# Altium footprint library Connector_Molex.PcbLib: 815 footprints (part 28 of 51)
Each footprint in its own frame and in the unit in brackets; x right, y up, seen from the top. Pads: shape width x height; smd on the part's side, far side on the other; paste and mask are expansions set on the pad; w line width, h text height; cw(c..) or ccw(c..) is an arc to the next point about the centre after c.
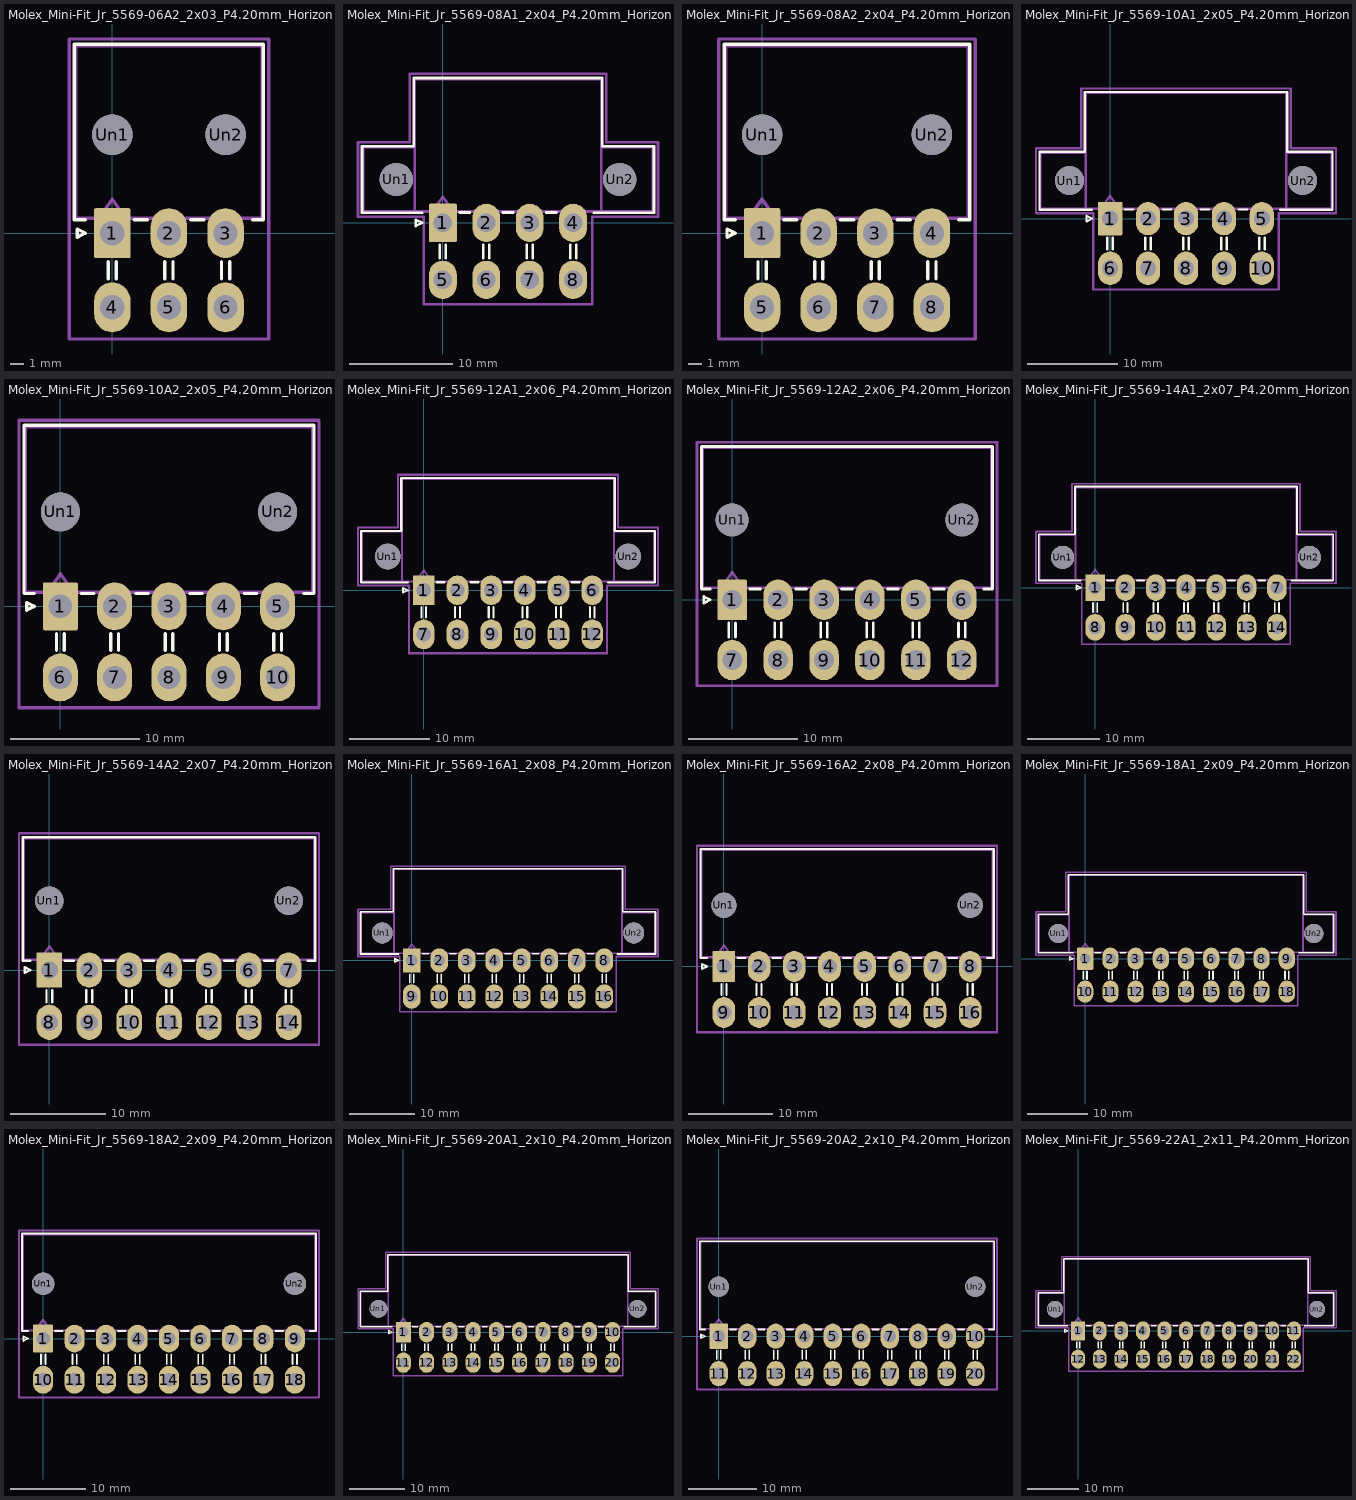
[diagram p27: the footprints below, top view; thin cyan lines are the x and y axes]

## Molex_Mini-Fit_Jr_5569-06A2_2x03_P4.20mm_Horizontal [mm]
pads (8):
  rrect9% 2.7x3.7 hole 1.8: 1(0,0)
  rrect100% 2.7x3.7 hole 1.8: 2(4.2,0) 3(8.4,0) 4(0,-5.5) 5(4.2,-5.5) 6(8.4,-5.5)
  round 3 hole 3: Un1(0,7.3) Un2(8.4,7.3)
F.SilkS:
  lines w0.254: -2,0.99 -2.81,0.99 -2.81,14.01 4.2,14.01 11.21,14.01 11.21,0.99 10.4,0.99 ; -0.3,-3.39 -0.3,-2.11 ; 0.3,-3.39 0.3,-2.11 ; 1.61,1 2.59,1 ; 3.9,-3.39 3.9,-2.11 ; 4.5,-3.39 4.5,-2.11 ; 5.81,1 6.79,1 ; 8.1,-3.39 8.1,-2.11 ; 8.7,-3.39 8.7,-2.11 ; -2.6,-0.3 -2,0 -2.6,0.3 -2.6,-0.3
Top Assembly:
  lines w0.254: -1,1.1 0,2.514 1,1.1 ; -2.7,1.1 11.1,1.1 11.1,13.9 -2.7,13.9 -2.7,1.1
  text "'.Designator'" at 0.153,12.36 h1
Top Courtyard:
  lines w0.254: -3.2,-7.85 11.61,-7.85 11.61,14.4 -3.2,14.4 -3.2,-7.85
Top Designator:
  text ".Designator" at -3.413,2.767 h1.52

## Molex_Mini-Fit_Jr_5569-08A1_2x04_P4.20mm_Horizontal [mm]
pads (10):
  rrect9% 2.7x3.7 hole 1.8: 1(0,0)
  rrect100% 2.7x3.7 hole 1.8: 2(4.2,0) 3(8.4,0) 4(12.6,0) 5(0,-5.5) 6(4.2,-5.5) 7(8.4,-5.5) 8(12.6,-5.5)
  round 3.2 hole 3.2: Un1(-4.5,4.2) Un2(17.1,4.2)
F.SilkS:
  lines w0.254: -2,0.99 -7.81,0.99 -7.81,7.41 -2.81,7.41 -2.81,14.01 6.3,14.01 15.41,14.01 15.41,7.41 20.41,7.41 20.41,0.99 14.6,0.99 ; -0.3,-3.39 -0.3,-2.11 ; 0.3,-3.39 0.3,-2.11 ; 1.61,1 2.59,1 ; 3.9,-3.39 3.9,-2.11 ; 4.5,-3.39 4.5,-2.11 ; 5.81,1 6.79,1 ; 8.1,-3.39 8.1,-2.11 ; 8.7,-3.39 8.7,-2.11 ; 10.01,1 10.99,1 ; 12.3,-3.39 12.3,-2.11 ; 12.9,-3.39 12.9,-2.11 ; -2.6,-0.3 -2,0 -2.6,0.3 -2.6,-0.3
Top Assembly:
  lines w0.254: -2.7,7.3 -7.7,7.3 -7.7,1.1 -2.7,1.1 ; -1,1.1 0,2.514 1,1.1 ; 15.3,7.3 20.3,7.3 20.3,1.1 15.3,1.1 ; -2.7,1.1 15.3,1.1 ; -2.7,1.1 -2.7,13.9 15.3,13.9 15.3,1.1
  text "'.Designator'" at 2.253,12.36 h1
Top Courtyard:
  lines w0.254: -8.2,0.6 -1.85,0.6 -1.85,-7.85 6.3,-7.85 14.45,-7.85 14.45,0.6 20.8,0.6 20.8,7.8 15.8,7.8 15.8,14.4 6.3,14.4 -3.2,14.4 -3.2,7.8 -8.2,7.8 -8.2,0.6
Top Designator:
  text ".Designator" at -1.318,2.767 h1.52

## Molex_Mini-Fit_Jr_5569-08A2_2x04_P4.20mm_Horizontal [mm]
pads (10):
  rrect9% 2.7x3.7 hole 1.8: 1(0,0)
  rrect100% 2.7x3.7 hole 1.8: 2(4.2,0) 3(8.4,0) 4(12.6,0) 5(0,-5.5) 6(4.2,-5.5) 7(8.4,-5.5) 8(12.6,-5.5)
  round 3 hole 3: Un1(0,7.3) Un2(12.6,7.3)
F.SilkS:
  lines w0.254: -2,0.99 -2.81,0.99 -2.81,14.01 6.3,14.01 15.41,14.01 15.41,0.99 14.6,0.99 ; -0.3,-3.39 -0.3,-2.11 ; 0.3,-3.39 0.3,-2.11 ; 1.61,1 2.59,1 ; 3.9,-3.39 3.9,-2.11 ; 4.5,-3.39 4.5,-2.11 ; 5.81,1 6.79,1 ; 8.1,-3.39 8.1,-2.11 ; 8.7,-3.39 8.7,-2.11 ; 10.01,1 10.99,1 ; 12.3,-3.39 12.3,-2.11 ; 12.9,-3.39 12.9,-2.11 ; -2.6,-0.3 -2,0 -2.6,0.3 -2.6,-0.3
Top Assembly:
  lines w0.254: -1,1.1 0,2.514 1,1.1 ; -2.7,1.1 15.3,1.1 15.3,13.9 -2.7,13.9 -2.7,1.1
  text "'.Designator'" at 2.253,12.36 h1
Top Courtyard:
  lines w0.254: -3.2,-7.85 15.8,-7.85 15.8,14.4 -3.2,14.4 -3.2,-7.85
Top Designator:
  text ".Designator" at -1.318,2.767 h1.52

## Molex_Mini-Fit_Jr_5569-10A1_2x05_P4.20mm_Horizontal [mm]
pads (12):
  rrect9% 2.7x3.7 hole 1.8: 1(0,0)
  rrect100% 2.7x3.7 hole 1.8: 2(4.2,0) 3(8.4,0) 4(12.6,0) 5(16.8,0) 6(0,-5.5) 7(4.2,-5.5) 8(8.4,-5.5) 9(12.6,-5.5) 10(16.8,-5.5)
  round 3.2 hole 3.2: Un1(-4.5,4.2) Un2(21.3,4.2)
F.SilkS:
  lines w0.254: -2,0.99 -7.81,0.99 -7.81,7.41 -2.81,7.41 -2.81,14.01 8.4,14.01 19.61,14.01 19.61,7.41 24.61,7.41 24.61,0.99 18.8,0.99 ; -0.3,-3.39 -0.3,-2.11 ; 0.3,-3.39 0.3,-2.11 ; 1.61,1 2.59,1 ; 3.9,-3.39 3.9,-2.11 ; 4.5,-3.39 4.5,-2.11 ; 5.81,1 6.79,1 ; 8.1,-3.39 8.1,-2.11 ; 8.7,-3.39 8.7,-2.11 ; 10.01,1 10.99,1 ; 12.3,-3.39 12.3,-2.11 ; 12.9,-3.39 12.9,-2.11 ; 14.21,1 15.19,1 ; 16.5,-3.39 16.5,-2.11 ; 17.1,-3.39 17.1,-2.11 ; -2.6,-0.3 -2,0 -2.6,0.3 -2.6,-0.3
Top Assembly:
  lines w0.254: -2.7,7.3 -7.7,7.3 -7.7,1.1 -2.7,1.1 ; -1,1.1 0,2.514 1,1.1 ; 19.5,7.3 24.5,7.3 24.5,1.1 19.5,1.1 ; -2.7,1.1 19.5,1.1 ; -2.7,1.1 -2.7,13.9 19.5,13.9 19.5,1.1
  text "'.Designator'" at 4.353,12.36 h1
Top Courtyard:
  lines w0.254: -8.2,0.6 -1.85,0.6 -1.85,-7.85 8.4,-7.85 18.65,-7.85 18.65,0.6 25,0.6 25,7.8 20,7.8 20,14.4 8.4,14.4 -3.2,14.4 -3.2,7.8 -8.2,7.8 -8.2,0.6
Top Designator:
  text ".Designator" at 0.782,2.767 h1.52

## Molex_Mini-Fit_Jr_5569-10A2_2x05_P4.20mm_Horizontal [mm]
pads (12):
  rrect9% 2.7x3.7 hole 1.8: 1(0,0)
  rrect100% 2.7x3.7 hole 1.8: 2(4.2,0) 3(8.4,0) 4(12.6,0) 5(16.8,0) 6(0,-5.5) 7(4.2,-5.5) 8(8.4,-5.5) 9(12.6,-5.5) 10(16.8,-5.5)
  round 3 hole 3: Un1(0,7.3) Un2(16.8,7.3)
F.SilkS:
  lines w0.254: -2,0.99 -2.81,0.99 -2.81,14.01 8.4,14.01 19.61,14.01 19.61,0.99 18.8,0.99 ; -0.3,-3.39 -0.3,-2.11 ; 0.3,-3.39 0.3,-2.11 ; 1.61,1 2.59,1 ; 3.9,-3.39 3.9,-2.11 ; 4.5,-3.39 4.5,-2.11 ; 5.81,1 6.79,1 ; 8.1,-3.39 8.1,-2.11 ; 8.7,-3.39 8.7,-2.11 ; 10.01,1 10.99,1 ; 12.3,-3.39 12.3,-2.11 ; 12.9,-3.39 12.9,-2.11 ; 14.21,1 15.19,1 ; 16.5,-3.39 16.5,-2.11 ; 17.1,-3.39 17.1,-2.11 ; -2.6,-0.3 -2,0 -2.6,0.3 -2.6,-0.3
Top Assembly:
  lines w0.254: -1,1.1 0,2.514 1,1.1 ; -2.7,1.1 19.5,1.1 19.5,13.9 -2.7,13.9 -2.7,1.1
  text "'.Designator'" at 4.353,12.36 h1
Top Courtyard:
  lines w0.254: -3.2,-7.85 20,-7.85 20,14.4 -3.2,14.4 -3.2,-7.85
Top Designator:
  text ".Designator" at 0.782,2.767 h1.52

## Molex_Mini-Fit_Jr_5569-12A1_2x06_P4.20mm_Horizontal [mm]
pads (14):
  rrect9% 2.7x3.7 hole 1.8: 1(0,0)
  rrect100% 2.7x3.7 hole 1.8: 2(4.2,0) 3(8.4,0) 4(12.6,0) 5(16.8,0) 6(21,0) 7(0,-5.5) 8(4.2,-5.5) 9(8.4,-5.5) 10(12.6,-5.5) 11(16.8,-5.5) 12(21,-5.5)
  round 3.2 hole 3.2: Un1(-4.5,4.2) Un2(25.5,4.2)
F.SilkS:
  lines w0.254: -2,0.99 -7.81,0.99 -7.81,7.41 -2.81,7.41 -2.81,14.01 10.5,14.01 23.81,14.01 23.81,7.41 28.81,7.41 28.81,0.99 23,0.99 ; -0.3,-3.39 -0.3,-2.11 ; 0.3,-3.39 0.3,-2.11 ; 1.61,1 2.59,1 ; 3.9,-3.39 3.9,-2.11 ; 4.5,-3.39 4.5,-2.11 ; 5.81,1 6.79,1 ; 8.1,-3.39 8.1,-2.11 ; 8.7,-3.39 8.7,-2.11 ; 10.01,1 10.99,1 ; 12.3,-3.39 12.3,-2.11 ; 12.9,-3.39 12.9,-2.11 ; 14.21,1 15.19,1 ; 16.5,-3.39 16.5,-2.11 ; 17.1,-3.39 17.1,-2.11 ; 18.41,1 19.39,1 ; 20.7,-3.39 20.7,-2.11 ; 21.3,-3.39 21.3,-2.11 ; -2.6,-0.3 -2,0 -2.6,0.3 -2.6,-0.3
Top Assembly:
  lines w0.254: -2.7,7.3 -7.7,7.3 -7.7,1.1 -2.7,1.1 ; -1,1.1 0,2.514 1,1.1 ; 23.7,7.3 28.7,7.3 28.7,1.1 23.7,1.1 ; -2.7,1.1 23.7,1.1 ; -2.7,1.1 -2.7,13.9 23.7,13.9 23.7,1.1
  text "'.Designator'" at 6.453,12.36 h1
Top Courtyard:
  lines w0.254: -8.2,0.6 -1.85,0.6 -1.85,-7.85 10.5,-7.85 22.85,-7.85 22.85,0.6 29.2,0.6 29.2,7.8 24.21,7.8 24.21,14.4 10.5,14.4 -3.21,14.4 -3.21,7.8 -8.2,7.8 -8.2,0.6
Top Designator:
  text ".Designator" at 2.882,2.767 h1.52

## Molex_Mini-Fit_Jr_5569-12A2_2x06_P4.20mm_Horizontal [mm]
pads (14):
  rrect9% 2.7x3.7 hole 1.8: 1(0,0)
  rrect100% 2.7x3.7 hole 1.8: 2(4.2,0) 3(8.4,0) 4(12.6,0) 5(16.8,0) 6(21,0) 7(0,-5.5) 8(4.2,-5.5) 9(8.4,-5.5) 10(12.6,-5.5) 11(16.8,-5.5) 12(21,-5.5)
  round 3 hole 3: Un1(0,7.3) Un2(21,7.3)
F.SilkS:
  lines w0.254: -2,0.99 -2.81,0.99 -2.81,14.01 10.5,14.01 23.81,14.01 23.81,0.99 23,0.99 ; -0.3,-3.39 -0.3,-2.11 ; 0.3,-3.39 0.3,-2.11 ; 1.61,1 2.59,1 ; 3.9,-3.39 3.9,-2.11 ; 4.5,-3.39 4.5,-2.11 ; 5.81,1 6.79,1 ; 8.1,-3.39 8.1,-2.11 ; 8.7,-3.39 8.7,-2.11 ; 10.01,1 10.99,1 ; 12.3,-3.39 12.3,-2.11 ; 12.9,-3.39 12.9,-2.11 ; 14.21,1 15.19,1 ; 16.5,-3.39 16.5,-2.11 ; 17.1,-3.39 17.1,-2.11 ; 18.41,1 19.39,1 ; 20.7,-3.39 20.7,-2.11 ; 21.3,-3.39 21.3,-2.11 ; -2.6,-0.3 -2,0 -2.6,0.3 -2.6,-0.3
Top Assembly:
  lines w0.254: -1,1.1 0,2.514 1,1.1 ; -2.7,1.1 23.7,1.1 23.7,13.9 -2.7,13.9 -2.7,1.1
  text "'.Designator'" at 6.453,12.36 h1
Top Courtyard:
  lines w0.254: -3.21,-7.85 24.21,-7.85 24.21,14.4 -3.21,14.4 -3.21,-7.85
Top Designator:
  text ".Designator" at 2.882,2.767 h1.52

## Molex_Mini-Fit_Jr_5569-14A1_2x07_P4.20mm_Horizontal [mm]
pads (16):
  rrect9% 2.7x3.7 hole 1.8: 1(0,0)
  rrect100% 2.7x3.7 hole 1.8: 2(4.2,0) 3(8.4,0) 4(12.6,0) 5(16.8,0) 6(21,0) 7(25.2,0) 8(0,-5.5) 9(4.2,-5.5) 10(8.4,-5.5) 11(12.6,-5.5) 12(16.8,-5.5) 13(21,-5.5) 14(25.2,-5.5)
  round 3.2 hole 3.2: Un1(-4.5,4.2) Un2(29.7,4.2)
F.SilkS:
  lines w0.254: -2,0.99 -7.81,0.99 -7.81,7.41 -2.81,7.41 -2.81,14.01 12.6,14.01 28.01,14.01 28.01,7.41 33.01,7.41 33.01,0.99 27.2,0.99 ; -0.3,-3.39 -0.3,-2.11 ; 0.3,-3.39 0.3,-2.11 ; 1.61,1 2.59,1 ; 3.9,-3.39 3.9,-2.11 ; 4.5,-3.39 4.5,-2.11 ; 5.81,1 6.79,1 ; 8.1,-3.39 8.1,-2.11 ; 8.7,-3.39 8.7,-2.11 ; 10.01,1 10.99,1 ; 12.3,-3.39 12.3,-2.11 ; 12.9,-3.39 12.9,-2.11 ; 14.21,1 15.19,1 ; 16.5,-3.39 16.5,-2.11 ; 17.1,-3.39 17.1,-2.11 ; 18.41,1 19.39,1 ; 20.7,-3.39 20.7,-2.11 ; 21.3,-3.39 21.3,-2.11 ; 22.61,1 23.59,1 ; 24.9,-3.39 24.9,-2.11 ; 25.5,-3.39 25.5,-2.11 ; -2.6,-0.3 -2,0 -2.6,0.3 -2.6,-0.3
Top Assembly:
  lines w0.254: -2.7,7.3 -7.7,7.3 -7.7,1.1 -2.7,1.1 ; -1,1.1 0,2.514 1,1.1 ; 27.9,7.3 32.9,7.3 32.9,1.1 27.9,1.1 ; -2.7,1.1 27.9,1.1 ; -2.7,1.1 -2.7,13.9 27.9,13.9 27.9,1.1
  text "'.Designator'" at 8.553,12.36 h1
Top Courtyard:
  lines w0.254: -8.2,0.6 -1.85,0.6 -1.85,-7.85 12.6,-7.85 27.05,-7.85 27.05,0.6 33.4,0.6 33.4,7.8 28.4,7.8 28.4,14.4 12.6,14.4 -3.2,14.4 -3.2,7.8 -8.2,7.8 -8.2,0.6
Top Designator:
  text ".Designator" at 4.982,2.767 h1.52

## Molex_Mini-Fit_Jr_5569-14A2_2x07_P4.20mm_Horizontal [mm]
pads (16):
  rrect9% 2.7x3.7 hole 1.8: 1(0,0)
  rrect100% 2.7x3.7 hole 1.8: 2(4.2,0) 3(8.4,0) 4(12.6,0) 5(16.8,0) 6(21,0) 7(25.2,0) 8(0,-5.5) 9(4.2,-5.5) 10(8.4,-5.5) 11(12.6,-5.5) 12(16.8,-5.5) 13(21,-5.5) 14(25.2,-5.5)
  round 3 hole 3: Un1(0,7.3) Un2(25.2,7.3)
F.SilkS:
  lines w0.254: -2,0.99 -2.81,0.99 -2.81,14.01 12.6,14.01 28.01,14.01 28.01,0.99 27.2,0.99 ; -0.3,-3.39 -0.3,-2.11 ; 0.3,-3.39 0.3,-2.11 ; 1.61,1 2.59,1 ; 3.9,-3.39 3.9,-2.11 ; 4.5,-3.39 4.5,-2.11 ; 5.81,1 6.79,1 ; 8.1,-3.39 8.1,-2.11 ; 8.7,-3.39 8.7,-2.11 ; 10.01,1 10.99,1 ; 12.3,-3.39 12.3,-2.11 ; 12.9,-3.39 12.9,-2.11 ; 14.21,1 15.19,1 ; 16.5,-3.39 16.5,-2.11 ; 17.1,-3.39 17.1,-2.11 ; 18.41,1 19.39,1 ; 20.7,-3.39 20.7,-2.11 ; 21.3,-3.39 21.3,-2.11 ; 22.61,1 23.59,1 ; 24.9,-3.39 24.9,-2.11 ; 25.5,-3.39 25.5,-2.11 ; -2.6,-0.3 -2,0 -2.6,0.3 -2.6,-0.3
Top Assembly:
  lines w0.254: -1,1.1 0,2.514 1,1.1 ; -2.7,1.1 27.9,1.1 27.9,13.9 -2.7,13.9 -2.7,1.1
  text "'.Designator'" at 8.553,12.36 h1
Top Courtyard:
  lines w0.254: -3.2,-7.85 28.4,-7.85 28.4,14.4 -3.2,14.4 -3.2,-7.85
Top Designator:
  text ".Designator" at 4.982,2.767 h1.52

## Molex_Mini-Fit_Jr_5569-16A1_2x08_P4.20mm_Horizontal [mm]
pads (18):
  rrect9% 2.7x3.7 hole 1.8: 1(0,0)
  rrect100% 2.7x3.7 hole 1.8: 2(4.2,0) 3(8.4,0) 4(12.6,0) 5(16.8,0) 6(21,0) 7(25.2,0) 8(29.4,0) 9(0,-5.5) 10(4.2,-5.5) 11(8.4,-5.5) 12(12.6,-5.5) 13(16.8,-5.5) 14(21,-5.5) 15(25.2,-5.5) 16(29.4,-5.5)
  round 3.2 hole 3.2: Un1(-4.5,4.2) Un2(33.9,4.2)
F.SilkS:
  lines w0.254: -2,0.99 -7.81,0.99 -7.81,7.41 -2.81,7.41 -2.81,14.01 14.7,14.01 32.21,14.01 32.21,7.41 37.21,7.41 37.21,0.99 31.4,0.99 ; -0.3,-3.39 -0.3,-2.11 ; 0.3,-3.39 0.3,-2.11 ; 1.61,1 2.59,1 ; 3.9,-3.39 3.9,-2.11 ; 4.5,-3.39 4.5,-2.11 ; 5.81,1 6.79,1 ; 8.1,-3.39 8.1,-2.11 ; 8.7,-3.39 8.7,-2.11 ; 10.01,1 10.99,1 ; 12.3,-3.39 12.3,-2.11 ; 12.9,-3.39 12.9,-2.11 ; 14.21,1 15.19,1 ; 16.5,-3.39 16.5,-2.11 ; 17.1,-3.39 17.1,-2.11 ; 18.41,1 19.39,1 ; 20.7,-3.39 20.7,-2.11 ; 21.3,-3.39 21.3,-2.11 ; 22.61,1 23.59,1 ; 24.9,-3.39 24.9,-2.11 ; 25.5,-3.39 25.5,-2.11 ; 26.81,1 27.79,1 ; 29.1,-3.39 29.1,-2.11 ; 29.7,-3.39 29.7,-2.11 ; -2.6,-0.3 -2,0 -2.6,0.3 -2.6,-0.3
Top Assembly:
  lines w0.254: -2.7,7.3 -7.7,7.3 -7.7,1.1 -2.7,1.1 ; -1,1.1 0,2.514 1,1.1 ; 32.1,7.3 37.1,7.3 37.1,1.1 32.1,1.1 ; -2.7,1.1 32.1,1.1 ; -2.7,1.1 -2.7,13.9 32.1,13.9 32.1,1.1
  text "'.Designator'" at 10.653,12.36 h1
Top Courtyard:
  lines w0.254: -8.2,0.6 -1.85,0.6 -1.85,-7.85 14.7,-7.85 31.25,-7.85 31.25,0.6 37.6,0.6 37.6,7.8 32.61,7.8 32.61,14.4 14.7,14.4 -3.21,14.4 -3.21,7.8 -8.2,7.8 -8.2,0.6
Top Designator:
  text ".Designator" at 7.082,2.767 h1.52

## Molex_Mini-Fit_Jr_5569-16A2_2x08_P4.20mm_Horizontal [mm]
pads (18):
  rrect9% 2.7x3.7 hole 1.8: 1(0,0)
  rrect100% 2.7x3.7 hole 1.8: 2(4.2,0) 3(8.4,0) 4(12.6,0) 5(16.8,0) 6(21,0) 7(25.2,0) 8(29.4,0) 9(0,-5.5) 10(4.2,-5.5) 11(8.4,-5.5) 12(12.6,-5.5) 13(16.8,-5.5) 14(21,-5.5) 15(25.2,-5.5) 16(29.4,-5.5)
  round 3 hole 3: Un1(0,7.3) Un2(29.4,7.3)
F.SilkS:
  lines w0.254: -2,0.99 -2.81,0.99 -2.81,14.01 14.7,14.01 32.21,14.01 32.21,0.99 31.4,0.99 ; -0.3,-3.39 -0.3,-2.11 ; 0.3,-3.39 0.3,-2.11 ; 1.61,1 2.59,1 ; 3.9,-3.39 3.9,-2.11 ; 4.5,-3.39 4.5,-2.11 ; 5.81,1 6.79,1 ; 8.1,-3.39 8.1,-2.11 ; 8.7,-3.39 8.7,-2.11 ; 10.01,1 10.99,1 ; 12.3,-3.39 12.3,-2.11 ; 12.9,-3.39 12.9,-2.11 ; 14.21,1 15.19,1 ; 16.5,-3.39 16.5,-2.11 ; 17.1,-3.39 17.1,-2.11 ; 18.41,1 19.39,1 ; 20.7,-3.39 20.7,-2.11 ; 21.3,-3.39 21.3,-2.11 ; 22.61,1 23.59,1 ; 24.9,-3.39 24.9,-2.11 ; 25.5,-3.39 25.5,-2.11 ; 26.81,1 27.79,1 ; 29.1,-3.39 29.1,-2.11 ; 29.7,-3.39 29.7,-2.11 ; -2.6,-0.3 -2,0 -2.6,0.3 -2.6,-0.3
Top Assembly:
  lines w0.254: -1,1.1 0,2.514 1,1.1 ; -2.7,1.1 32.1,1.1 32.1,13.9 -2.7,13.9 -2.7,1.1
  text "'.Designator'" at 10.653,12.36 h1
Top Courtyard:
  lines w0.254: -3.21,-7.85 32.6,-7.85 32.6,14.4 -3.21,14.4 -3.21,-7.85
Top Designator:
  text ".Designator" at 7.077,2.767 h1.52

## Molex_Mini-Fit_Jr_5569-18A1_2x09_P4.20mm_Horizontal [mm]
pads (20):
  rrect9% 2.7x3.7 hole 1.8: 1(0,0)
  rrect100% 2.7x3.7 hole 1.8: 2(4.2,0) 3(8.4,0) 4(12.6,0) 5(16.8,0) 6(21,0) 7(25.2,0) 8(29.4,0) 9(33.6,0) 10(0,-5.5) 11(4.2,-5.5) 12(8.4,-5.5) 13(12.6,-5.5) 14(16.8,-5.5) 15(21,-5.5) 16(25.2,-5.5) 17(29.4,-5.5) 18(33.6,-5.5)
  round 3.2 hole 3.2: Un1(-4.5,4.2) Un2(38.1,4.2)
F.SilkS:
  lines w0.254: -2,0.99 -7.81,0.99 -7.81,7.41 -2.81,7.41 -2.81,14.01 16.8,14.01 36.41,14.01 36.41,7.41 41.41,7.41 41.41,0.99 35.6,0.99 ; -0.3,-3.39 -0.3,-2.11 ; 0.3,-3.39 0.3,-2.11 ; 1.61,1 2.59,1 ; 3.9,-3.39 3.9,-2.11 ; 4.5,-3.39 4.5,-2.11 ; 5.81,1 6.79,1 ; 8.1,-3.39 8.1,-2.11 ; 8.7,-3.39 8.7,-2.11 ; 10.01,1 10.99,1 ; 12.3,-3.39 12.3,-2.11 ; 12.9,-3.39 12.9,-2.11 ; 14.21,1 15.19,1 ; 16.5,-3.39 16.5,-2.11 ; 17.1,-3.39 17.1,-2.11 ; 18.41,1 19.39,1 ; 20.7,-3.39 20.7,-2.11 ; 21.3,-3.39 21.3,-2.11 ; 22.61,1 23.59,1 ; 24.9,-3.39 24.9,-2.11 ; 25.5,-3.39 25.5,-2.11 ; 26.81,1 27.79,1 ; 29.1,-3.39 29.1,-2.11 ; 29.7,-3.39 29.7,-2.11 ; 31.01,1 31.99,1 ; 33.3,-3.39 33.3,-2.11 ; 33.9,-3.39 33.9,-2.11 ; -2.6,-0.3 -2,0 -2.6,0.3 -2.6,-0.3
Top Assembly:
  lines w0.254: -2.7,7.3 -7.7,7.3 -7.7,1.1 -2.7,1.1 ; -1,1.1 0,2.514 1,1.1 ; 36.3,7.3 41.3,7.3 41.3,1.1 36.3,1.1 ; -2.7,1.1 36.3,1.1 ; -2.7,1.1 -2.7,13.9 36.3,13.9 36.3,1.1
  text "'.Designator'" at 12.753,12.36 h1
Top Courtyard:
  lines w0.254: -8.2,0.6 -1.85,0.6 -1.85,-7.85 16.8,-7.85 35.45,-7.85 35.45,0.6 41.8,0.6 41.8,7.8 36.81,7.8 36.81,14.4 16.8,14.4 -3.21,14.4 -3.21,7.8 -8.2,7.8 -8.2,0.6
Top Designator:
  text ".Designator" at 9.182,2.767 h1.52

## Molex_Mini-Fit_Jr_5569-18A2_2x09_P4.20mm_Horizontal [mm]
pads (20):
  rrect9% 2.7x3.7 hole 1.8: 1(0,0)
  rrect100% 2.7x3.7 hole 1.8: 2(4.2,0) 3(8.4,0) 4(12.6,0) 5(16.8,0) 6(21,0) 7(25.2,0) 8(29.4,0) 9(33.6,0) 10(0,-5.5) 11(4.2,-5.5) 12(8.4,-5.5) 13(12.6,-5.5) 14(16.8,-5.5) 15(21,-5.5) 16(25.2,-5.5) 17(29.4,-5.5) 18(33.6,-5.5)
  round 3 hole 3: Un1(0,7.3) Un2(33.6,7.3)
F.SilkS:
  lines w0.254: -2,0.99 -2.81,0.99 -2.81,14.01 16.8,14.01 36.41,14.01 36.41,0.99 35.6,0.99 ; -0.3,-3.39 -0.3,-2.11 ; 0.3,-3.39 0.3,-2.11 ; 1.61,1 2.59,1 ; 3.9,-3.39 3.9,-2.11 ; 4.5,-3.39 4.5,-2.11 ; 5.81,1 6.79,1 ; 8.1,-3.39 8.1,-2.11 ; 8.7,-3.39 8.7,-2.11 ; 10.01,1 10.99,1 ; 12.3,-3.39 12.3,-2.11 ; 12.9,-3.39 12.9,-2.11 ; 14.21,1 15.19,1 ; 16.5,-3.39 16.5,-2.11 ; 17.1,-3.39 17.1,-2.11 ; 18.41,1 19.39,1 ; 20.7,-3.39 20.7,-2.11 ; 21.3,-3.39 21.3,-2.11 ; 22.61,1 23.59,1 ; 24.9,-3.39 24.9,-2.11 ; 25.5,-3.39 25.5,-2.11 ; 26.81,1 27.79,1 ; 29.1,-3.39 29.1,-2.11 ; 29.7,-3.39 29.7,-2.11 ; 31.01,1 31.99,1 ; 33.3,-3.39 33.3,-2.11 ; 33.9,-3.39 33.9,-2.11 ; -2.6,-0.3 -2,0 -2.6,0.3 -2.6,-0.3
Top Assembly:
  lines w0.254: -1,1.1 0,2.514 1,1.1 ; -2.7,1.1 36.3,1.1 36.3,13.9 -2.7,13.9 -2.7,1.1
  text "'.Designator'" at 12.753,12.36 h1
Top Courtyard:
  lines w0.254: -3.21,-7.85 36.81,-7.85 36.81,14.4 -3.21,14.4 -3.21,-7.85
Top Designator:
  text ".Designator" at 9.182,2.767 h1.52

## Molex_Mini-Fit_Jr_5569-20A1_2x10_P4.20mm_Horizontal [mm]
pads (22):
  rrect9% 2.7x3.7 hole 1.8: 1(0,0)
  rrect100% 2.7x3.7 hole 1.8: 2(4.2,0) 3(8.4,0) 4(12.6,0) 5(16.8,0) 6(21,0) 7(25.2,0) 8(29.4,0) 9(33.6,0) 10(37.8,0) 11(0,-5.5) 12(4.2,-5.5) 13(8.4,-5.5) 14(12.6,-5.5) 15(16.8,-5.5) 16(21,-5.5) 17(25.2,-5.5) 18(29.4,-5.5) 19(33.6,-5.5) 20(37.8,-5.5)
  round 3.2 hole 3.2: Un1(-4.5,4.2) Un2(42.3,4.2)
F.SilkS:
  lines w0.254: -2,0.99 -7.81,0.99 -7.81,7.41 -2.81,7.41 -2.81,14.01 18.9,14.01 40.61,14.01 40.61,7.41 45.61,7.41 45.61,0.99 39.8,0.99 ; -0.3,-3.39 -0.3,-2.11 ; 0.3,-3.39 0.3,-2.11 ; 1.61,1 2.59,1 ; 3.9,-3.39 3.9,-2.11 ; 4.5,-3.39 4.5,-2.11 ; 5.81,1 6.79,1 ; 8.1,-3.39 8.1,-2.11 ; 8.7,-3.39 8.7,-2.11 ; 10.01,1 10.99,1 ; 12.3,-3.39 12.3,-2.11 ; 12.9,-3.39 12.9,-2.11 ; 14.21,1 15.19,1 ; 16.5,-3.39 16.5,-2.11 ; 17.1,-3.39 17.1,-2.11 ; 18.41,1 19.39,1 ; 20.7,-3.39 20.7,-2.11 ; 21.3,-3.39 21.3,-2.11 ; 22.61,1 23.59,1 ; 24.9,-3.39 24.9,-2.11 ; 25.5,-3.39 25.5,-2.11 ; 26.81,1 27.79,1 ; 29.1,-3.39 29.1,-2.11 ; 29.7,-3.39 29.7,-2.11 ; 31.01,1 31.99,1 ; 33.3,-3.39 33.3,-2.11 ; 33.9,-3.39 33.9,-2.11 ; 35.21,1 36.19,1 ; 37.5,-3.39 37.5,-2.11 ; 38.1,-3.39 38.1,-2.11 ; -2.6,-0.3 -2,0 -2.6,0.3 -2.6,-0.3
Top Assembly:
  lines w0.254: -2.7,7.3 -7.7,7.3 -7.7,1.1 -2.7,1.1 ; -1,1.1 0,2.514 1,1.1 ; 40.5,7.3 45.5,7.3 45.5,1.1 40.5,1.1 ; -2.7,1.1 40.5,1.1 ; -2.7,1.1 -2.7,13.9 40.5,13.9 40.5,1.1
  text "'.Designator'" at 14.853,12.36 h1
Top Courtyard:
  lines w0.254: -8.2,0.6 -1.85,0.6 -1.85,-7.85 18.9,-7.85 39.65,-7.85 39.65,0.6 46,0.6 46,7.8 41,7.8 41,14.4 18.9,14.4 -3.2,14.4 -3.2,7.8 -8.2,7.8 -8.2,0.6
Top Designator:
  text ".Designator" at 11.282,2.767 h1.52

## Molex_Mini-Fit_Jr_5569-20A2_2x10_P4.20mm_Horizontal [mm]
pads (22):
  rrect9% 2.7x3.7 hole 1.8: 1(0,0)
  rrect100% 2.7x3.7 hole 1.8: 2(4.2,0) 3(8.4,0) 4(12.6,0) 5(16.8,0) 6(21,0) 7(25.2,0) 8(29.4,0) 9(33.6,0) 10(37.8,0) 11(0,-5.5) 12(4.2,-5.5) 13(8.4,-5.5) 14(12.6,-5.5) 15(16.8,-5.5) 16(21,-5.5) 17(25.2,-5.5) 18(29.4,-5.5) 19(33.6,-5.5) 20(37.8,-5.5)
  round 3 hole 3: Un1(0,7.3) Un2(37.8,7.3)
F.SilkS:
  lines w0.254: -2,0.99 -2.81,0.99 -2.81,14.01 18.9,14.01 40.61,14.01 40.61,0.99 39.8,0.99 ; -0.3,-3.39 -0.3,-2.11 ; 0.3,-3.39 0.3,-2.11 ; 1.61,1 2.59,1 ; 3.9,-3.39 3.9,-2.11 ; 4.5,-3.39 4.5,-2.11 ; 5.81,1 6.79,1 ; 8.1,-3.39 8.1,-2.11 ; 8.7,-3.39 8.7,-2.11 ; 10.01,1 10.99,1 ; 12.3,-3.39 12.3,-2.11 ; 12.9,-3.39 12.9,-2.11 ; 14.21,1 15.19,1 ; 16.5,-3.39 16.5,-2.11 ; 17.1,-3.39 17.1,-2.11 ; 18.41,1 19.39,1 ; 20.7,-3.39 20.7,-2.11 ; 21.3,-3.39 21.3,-2.11 ; 22.61,1 23.59,1 ; 24.9,-3.39 24.9,-2.11 ; 25.5,-3.39 25.5,-2.11 ; 26.81,1 27.79,1 ; 29.1,-3.39 29.1,-2.11 ; 29.7,-3.39 29.7,-2.11 ; 31.01,1 31.99,1 ; 33.3,-3.39 33.3,-2.11 ; 33.9,-3.39 33.9,-2.11 ; 35.21,1 36.19,1 ; 37.5,-3.39 37.5,-2.11 ; 38.1,-3.39 38.1,-2.11 ; -2.6,-0.3 -2,0 -2.6,0.3 -2.6,-0.3
Top Assembly:
  lines w0.254: -1,1.1 0,2.514 1,1.1 ; -2.7,1.1 40.5,1.1 40.5,13.9 -2.7,13.9 -2.7,1.1
  text "'.Designator'" at 14.853,12.36 h1
Top Courtyard:
  lines w0.254: -3.2,-7.85 41,-7.85 41,14.4 -3.2,14.4 -3.2,-7.85
Top Designator:
  text ".Designator" at 11.282,2.767 h1.52

## Molex_Mini-Fit_Jr_5569-22A1_2x11_P4.20mm_Horizontal [mm]
pads (24):
  rrect9% 2.7x3.7 hole 1.8: 1(0,0)
  rrect100% 2.7x3.7 hole 1.8: 2(4.2,0) 3(8.4,0) 4(12.6,0) 5(16.8,0) 6(21,0) 7(25.2,0) 8(29.4,0) 9(33.6,0) 10(37.8,0) 11(42,0) 12(0,-5.5) 13(4.2,-5.5) 14(8.4,-5.5) 15(12.6,-5.5) 16(16.8,-5.5) 17(21,-5.5) 18(25.2,-5.5) 19(29.4,-5.5) 20(33.6,-5.5) 21(37.8,-5.5) 22(42,-5.5)
  round 3.2 hole 3.2: Un1(-4.5,4.2) Un2(46.5,4.2)
F.SilkS:
  lines w0.254: -2,0.99 -7.81,0.99 -7.81,7.41 -2.81,7.41 -2.81,14.01 21,14.01 44.81,14.01 44.81,7.41 49.81,7.41 49.81,0.99 44,0.99 ; -0.3,-3.39 -0.3,-2.11 ; 0.3,-3.39 0.3,-2.11 ; 1.61,1 2.59,1 ; 3.9,-3.39 3.9,-2.11 ; 4.5,-3.39 4.5,-2.11 ; 5.81,1 6.79,1 ; 8.1,-3.39 8.1,-2.11 ; 8.7,-3.39 8.7,-2.11 ; 10.01,1 10.99,1 ; 12.3,-3.39 12.3,-2.11 ; 12.9,-3.39 12.9,-2.11 ; 14.21,1 15.19,1 ; 16.5,-3.39 16.5,-2.11 ; 17.1,-3.39 17.1,-2.11 ; 18.41,1 19.39,1 ; 20.7,-3.39 20.7,-2.11 ; 21.3,-3.39 21.3,-2.11 ; 22.61,1 23.59,1 ; 24.9,-3.39 24.9,-2.11 ; 25.5,-3.39 25.5,-2.11 ; 26.81,1 27.79,1 ; 29.1,-3.39 29.1,-2.11 ; 29.7,-3.39 29.7,-2.11 ; 31.01,1 31.99,1 ; 33.3,-3.39 33.3,-2.11 ; 33.9,-3.39 33.9,-2.11 ; 35.21,1 36.19,1 ; 37.5,-3.39 37.5,-2.11 ; 38.1,-3.39 38.1,-2.11 ; 39.41,1 40.39,1 ; 41.7,-3.39 41.7,-2.11 ; 42.3,-3.39 42.3,-2.11 ; -2.6,-0.3 -2,0 -2.6,0.3 -2.6,-0.3
Top Assembly:
  lines w0.254: -2.7,7.3 -7.7,7.3 -7.7,1.1 -2.7,1.1 ; -1,1.1 0,2.514 1,1.1 ; 44.7,7.3 49.7,7.3 49.7,1.1 44.7,1.1 ; -2.7,1.1 44.7,1.1 ; -2.7,1.1 -2.7,13.9 44.7,13.9 44.7,1.1
  text "'.Designator'" at 16.953,12.36 h1
Top Courtyard:
  lines w0.254: -8.2,0.6 -1.85,0.6 -1.85,-7.85 21,-7.85 43.85,-7.85 43.85,0.6 50.2,0.6 50.2,7.8 45.21,7.8 45.21,14.4 21,14.4 -3.21,14.4 -3.21,7.8 -8.2,7.8 -8.2,0.6
Top Designator:
  text ".Designator" at 13.382,2.767 h1.52